# EAGLE library part ATTINY861 (library MicroControl)
ATTINY861
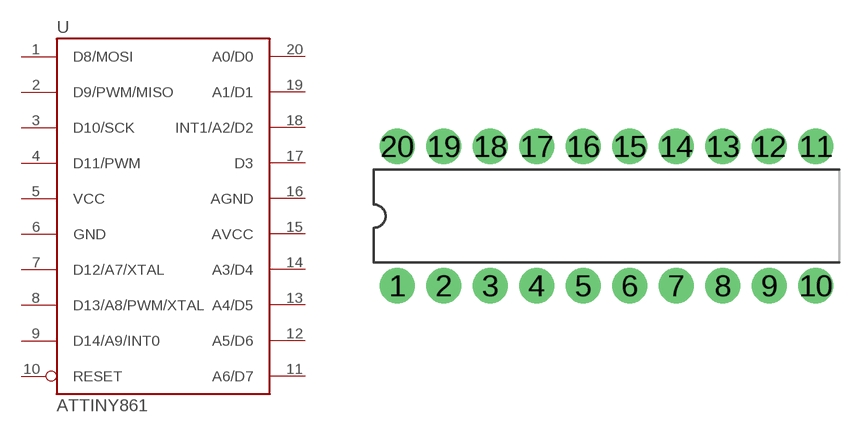
[diagram p3: symbol with the pads of DIL20; footprint DIL20]

Designator prefix U

## ATTINY861ATTINY861-DIL20  [DIL20]
1  D8/MOSI
2  D9/PWM/MISO
3  D10/SCK
4  D11/PWM
5  VCC
6  GND
7  D12/A7/XTAL
8  D13/A8/PWM/XTAL
9  D14/A9/INT0
10  RESET
11  A6/D7
12  A5/D6
13  A4/D5
14  A3/D4
15  AVCC
16  AGND
17  D3
18  INT1/A2/D2
19  A1/D1
20  A0/D0

## Footprint DIL20 (pad centres in mm)
drill 1.016 pad 1.93: 1 1.27,2.54; 2 3.81,2.54; 3 6.35,2.54; 4 8.89,2.54; 5 11.43,2.54; 6 13.97,2.54; 7 16.51,2.54; 8 19.05,2.54; 9 21.59,2.54; 10 24.13,2.54; 11 24.13,10.16; 12 21.59,10.16; 13 19.05,10.16; 14 16.51,10.16; 15 13.97,10.16; 16 11.43,10.16; 17 8.89,10.16; 18 6.35,10.16; 19 3.81,10.16; 20 1.27,10.16